# Altium schematic symbol library mylib.SchLib: 35 symbols
Pins are listed as number, name and electrical type; pins without a type are passive.

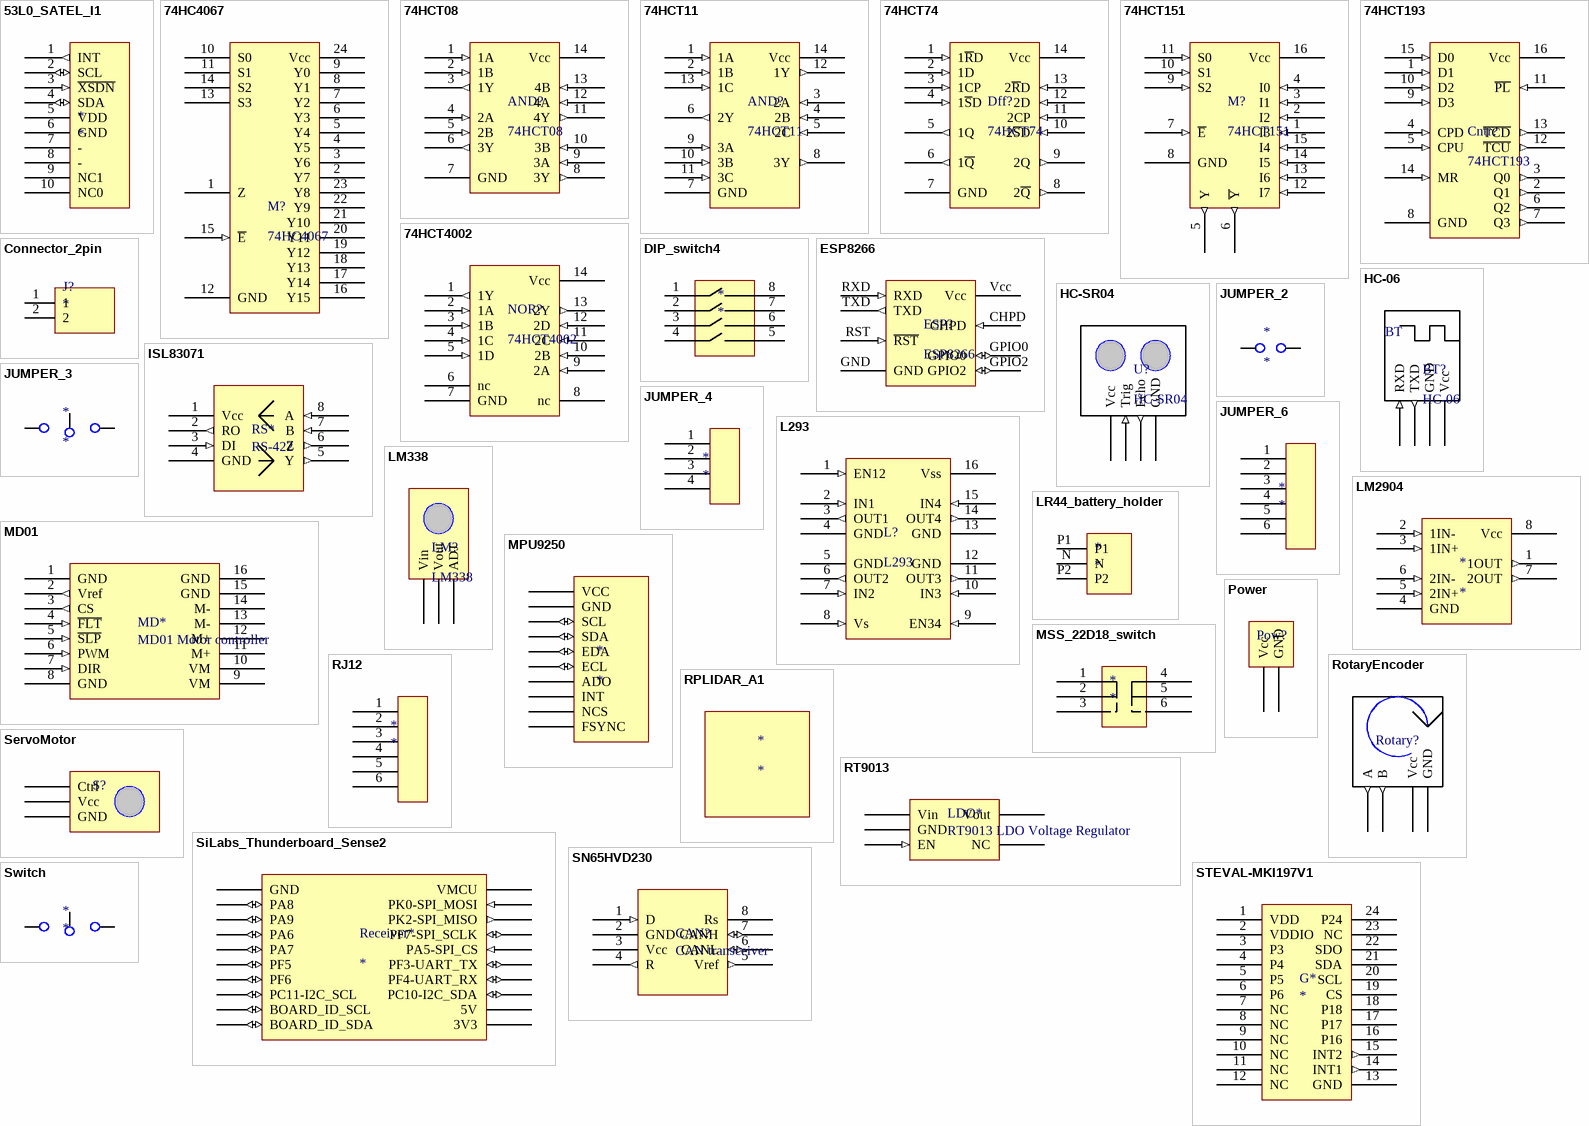
[diagram p0: symbols 53L0_SATEL_I1 to Switch]

## 53L0_SATEL_I1
designator *
footprint 53L1X-SATEL-I1 (53L1X-SATEL-I1 breakout board)
pins: 1 INT (out), 2 SCL (io), 3 ~{XSDN} (in), 4 SDA (io), 5 VDD (power), 6 GND (power), 7 -, 8 -, 9 NC1, 10 NC0

## 74HC4067
designator M?
16:1 multiplexer; Name: 74HCT151 8:1 multiplexer; Supplier: Lomex; Reference: 87-06-33
footprint SOP24
pins: 1 Z, 2 Y7, 3 Y6, 4 Y5, 5 Y4, 6 Y3, 7 Y2, 8 Y1, 9 Y0, 10 S0, 11 S1, 12 GND (power), 13 S3, 14 S2, 15 ~{E} (in), 16 Y15, 17 Y14, 18 Y13, 19 Y12, 20 Y11, 21 Y10, 22 Y9, 23 Y8, 24 Vcc (power)

## 74HCT08
designator AND?
Quadruple 2-input AND gate; Name: 74HCT08 quadruple 2-input AND gate; Supplier: Lomex; Reference: 87-02-92
footprint SOIC127P600X175-14N (SOIC, 14-Leads, Body 8.65x3.90mm, Pitch 1.27mm, IPC Medium Density)
pins: 1 1A (in), 2 1B (in), 3 1Y (out), 4 2A (in), 5 2B (in), 6 3Y (out), 7 GND (power), 8 3Y (out), 9 3A (in), 10 3B (in), 11 4Y (out), 12 4A (in), 13 4B (in), 14 Vcc (power)

## 74HCT11
designator AND?
Triple 3-input AND gate; Name: 74HCT11 triple 1 3-input AND gate; Supplier: Lomex; Reference: 87-02-21
footprint DIP14
footprint SO14
pins: 1 1A (in), 2 1B (in), 3 2A (in), 4 2B (in), 5 2C (in), 6 2Y (out), 7 GND (power), 8 3Y (out), 9 3A (in), 10 3B (in), 11 3C (in), 12 1Y (out), 13 1C (in), 14 Vcc (power)

## 74HCT74
designator Dff?
Dual D-type flip-flop
footprint DIP14
footprint SO14
pins: 1 1~{R}D (in), 2 1D (in), 3 1CP (in), 4 1~{S}D (in), 5 1Q (out), 6 1~{Q} (out), 7 GND (power), 8 2~{Q} (out), 9 2Q (out), 10 2~{S}D (in), 11 2CP (in), 12 2D (in), 13 2~{R}D (in), 14 Vcc (power)

## 74HCT151
designator M?
8:1 multiplexer; Name: 74HCT151 8:1 multiplexer; Supplier: Lomex; Reference: 87-06-33
pins: 1 I3 (in), 2 I2 (in), 3 I1 (in), 4 I0 (in), 5 Y (out), 6 ~{Y} (out), 7 ~{E} (in), 8 GND (power), 9 S2 (in), 10 S1 (in), 11 S0 (in), 12 I7 (in), 13 I6 (in), 14 I5 (in), 15 I4 (in), 16 Vcc (power)

## 74HCT193
designator Cntr?
4-bit synchronous binary up/down counter; Name: 74HCT193 4-bit synchronous binary up/down counter; Supplier: Lomex; Reference: 30-03-27
footprint DIP16
pins: 1 D1 (in), 2 Q1 (out), 3 Q0 (out), 4 CPD (in), 5 CPU (in), 6 Q2 (out), 7 Q3 (out), 8 GND (power), 9 D3 (in), 10 D2 (in), 11 ~{PL} (in), 12 ~{TCU} (out), 13 ~{TCD} (out), 14 MR (in), 15 D0 (in), 16 Vcc (power)

## 74HCT4002
designator NOR?
Dual 4-input NOR gate; Name: 74HCT4002 Dual 4-input NOR-gate; Supplier: Lomex; Reference: 30-05-58
footprint DIP14
footprint SO14
pins: 1 1Y (out), 2 1A (in), 3 1B (in), 4 1C (in), 5 1D (in), 6 nc, 7 GND (power), 8 nc, 9 2A (in), 10 2B (in), 11 2C (in), 12 2D (in), 13 2Y (out), 14 Vcc (power)

## Connector_2pin
designator J?
footprint PT_2-5 (PCB terminal block, nominal current: 32 A, nom. voltage: 400 V, pitch: 5 mm, number of positions: 2)
pins: 1, 2

## DIP_switch4
designator *
footprint DIP_SWITCH4
pins: 1, 2, 3, 4, 5, 6, 7, 8

## ESP8266
designator ESP?
WiFi module; Name: ESP8266 WiFi module; Reference: 311736436700; Supplier: eBay
footprint ESP8266
pins: CHPD (in), GND (power), GPIO0 (io), GPIO2 (io), RST ~{RST} (in), RXD (in), TXD (out), Vcc (power)

## HC-06
designator BT?
Bluetooth module; Name: HC-06 Bluetooth module; Reference: 301894804387; Supplier: eBay
footprint HC-06
pins: GND (power), RXD (in), TXD (out), Vcc (power)
text: BT

## HC-SR04
designator U?
HC-SR04 ultrasonic sensor; Reference: 141975951132; Name: HC-SR04 ultrasonic sensor; Supplier: eBay
footprint Ultrasonic
pins: Echo (out), GND (power), Trig (in), Vcc (power)

## ISL83071
designator RS*, comment RS-422
RS-422 transceiver 3V3
footprint NSOIC-8
pins: 1 Vcc (power), 2 RO (out), 3 DI (in), 4 GND (power), 5 Y (out), 6 Z (out), 7 B (in), 8 A (in)

## JUMPER_2
designator *
footprint JUMPER_2
pins: 1 C1, 2 C2

## JUMPER_3
designator *
footprint JUMPER_3
pins: 1 C1, 2 Cmid, 3 C2

## JUMPER_4
designator *
footprint JUMPER_4
pins: 1, 2, 3, 4

## JUMPER_6
designator *
footprint JUMPER_6
pins: 1, 2, 3, 4, 5, 6

## L293
designator L?
Motor driver; Name: L293 motor driver; Reference: 1470423; Supplier: Farnell
footprint DIP16
pins: 1 EN12 (in), 2 IN1 (in), 3 OUT1 (out), 4 GND (power), 5 GND (power), 6 OUT2 (out), 7 IN2 (in), 8 Vs (in), 9 EN34 (in), 10 IN3 (in), 11 OUT3 (out), 12 GND (power), 13 GND (power), 14 OUT4 (out), 15 IN4 (in), 16 Vss (power)

## LM338
designator LM?
Voltage regulator; Name: LM338 Voltage regulator; Supplier: Lomex; Reference: 32-04-33
footprint LM338 (LM338 Voltage regulator)
pins: ADJ, Vin, Vout

## LM2904
designator *
2-channel Operational amplifier; Name: LM2904 2-channel Operational amplifier
footprint DIP8
pins: 1 1OUT (out), 2 1IN- (in), 3 1IN+ (in), 4 GND (power), 5 2IN+ (in), 6 2IN- (in), 7 2OUT (out), 8 Vcc (power)

## LR44_battery_holder
designator *
footprint LR44_battery_holder
pins: N, P1, P2

## MD01
designator MD*, comment MD01 Motor controller
Motor controller module
footprint MD01 (Motor controller)
pins: 1 GND (power), 2 Vref (out), 3 CS (out), 4 ~{FLT} (in), 5 ~{SLP} (in), 6 PWM (in), 7 DIR (in), 8 GND (power), 9 VM (power), 10 VM (power), 11 M+, 12 M+, 13 M-, 14 M-, 15 GND (power), 16 GND (power)

## MPU9250
designator *
footprint MPU9250
pins: ADO, ECL (io), EDA (io), FSYNC, GND (power), INT, NCS, SCL (io), SDA (io), VCC (power)

## MSS_22D18_switch
designator *
footprint MSS_22D18_switch
pins: 1, 2, 3, 4, 5, 6

## Power
designator Pow?
Name: LEGO Battery box; Reference: 8881; Supplier: LEGO
footprint Power
pins: GND (power), Vcc (power)

## RJ12
designator *
footprint RJ12_straight (RJ12 6-pin straight connector)
footprint RJ12_90deg (RJ12 6-pin 90-degree connector)
pins: 1, 2, 3, 4, 5, 6

## RotaryEncoder
designator Rotary?
Rotary encoder; Reference: 221964724695; Name: Rotary encoder; Supplier: eBay
footprint RotaryEncoder
pins: A (out), B (out), GND (power), Vcc (power)

## RPLIDAR_A1
designator *

## RT9013
designator LDO*, comment RT9013 LDO Voltage Regulator
LDO Voltage Regulator
footprint RT9013_SOT23 (RT9013 LDO Voltage Regulator)
pins: EN (in), GND (power), NC, Vin (power), Vout (power)

## ServoMotor
designator S?
Servo motor; Name: MG996R servo motor; Reference: 201606181242; Supplier: eBay
footprint Servo_motor
pins: Ctrl, GND (power), Vcc (power)

## SiLabs_Thunderboard_Sense2
designator Receiver*
Radio transmitter/receiver
footprint SiLabs_Thunderbird_Sense2
pins: 1 GND (power), 2 VMCU (power), 3 PA8 (io), 4 PK0-SPI_MOSI (in), 5 PA9 (io), 6 PK2-SPI_MISO (out), 7 PA6 (io), 8 PF7-SPI_SCLK (io), 9 PA7 (io), 10 PA5-SPI_CS (in), 11 PF5 (io), 12 PF3-UART_TX (io), 13 PF6 (io), 14 PF4-UART_RX (io), 15 PC11-I2C_SCL (io), 16 PC10-I2C_SDA (io), 17 BOARD_ID_SCL (io), 18 5V (power), 19 BOARD_ID_SDA (io), 20 3V3 (power)

## SN65HVD230
designator CAN?, comment CAN transceiver
footprint SOIC-8
pins: 1 D (in), 2 GND (power), 3 Vcc (power), 4 R (out), 5 Vref (out), 6 CANL (io), 7 CANH (io), 8 Rs

## STEVAL-MKI197V1
designator G*
LSM6DSOX gyroscope adapter board for a standard DIL24 socket
footprint DIP24
pins: 1 VDD (power), 2 VDDIO (power), 3 P3, 4 P4, 5 P5, 6 P6, 7 NC, 8 NC, 9 NC, 10 NC, 11 NC, 12 NC, 13 GND (power), 14 INT1 (out), 15 INT2 (out), 16 P16, 17 P17, 18 P18, 19 CS, 20 SCL, 21 SDA, 22 SDO, 23 NC, 24 P24

## Switch
designator *
footprint Switch_SPDT
pins: 1 C1, 2 Cmid, 3 C2